# EAGLE library part SC18IS602 (library I2CBB-parts)
IC BRIDGE SPI/I2C 16-TSSOP
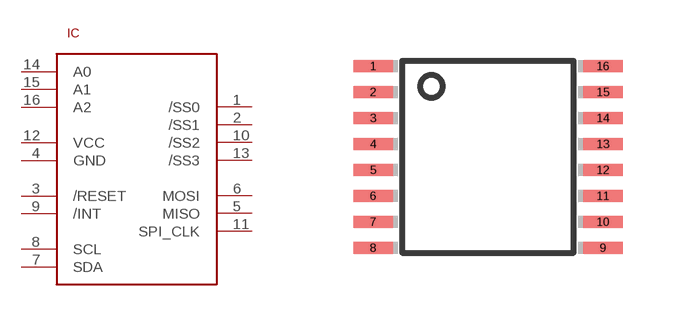
[diagram p0: symbol with the pads of TSSOP16; footprint TSSOP16]

Designator prefix IC

## SC18IS602  [TSSOP16]
1  /SS0
2  /SS1
3  /RESET  in
4  GND  pwr
5  MISO
6  MOSI
7  SDA
8  SCL
9  /INT  out
10  /SS2
11  SPI_CLK
12  VCC  pwr
13  /SS3
14  A0
15  A1
16  A2

## Footprint TSSOP16 (pad centres in mm)
16-Lead Thin Shrink Small Outline Package [TSSOP] (RU-16) Source: 8x ADG1408_1409.pdf
smd 0.991 x 0.305: 1 -2.875,2.275; 2 -2.875,1.625; 3 -2.875,0.975; 4 -2.875,0.325; 5 -2.875,-0.325; 6 -2.875,-0.975; 7 -2.875,-1.625; 8 -2.875,-2.275; 9 2.875,-2.275; 10 2.875,-1.625; 11 2.875,-0.975; 12 2.875,-0.325; 13 2.875,0.325; 14 2.875,0.975; 15 2.875,1.625; 16 2.875,2.275